# Altium footprint library MCU_Test.PcbLib: 16 footprints
Each footprint in its own frame and in the unit in brackets; x right, y up, seen from the top. Pads: shape width x height; smd on the part's side, far side on the other; paste and mask are expansions set on the pad; w line width, h text height; cw(c..) or ccw(c..) is an arc to the next point about the centre after c.
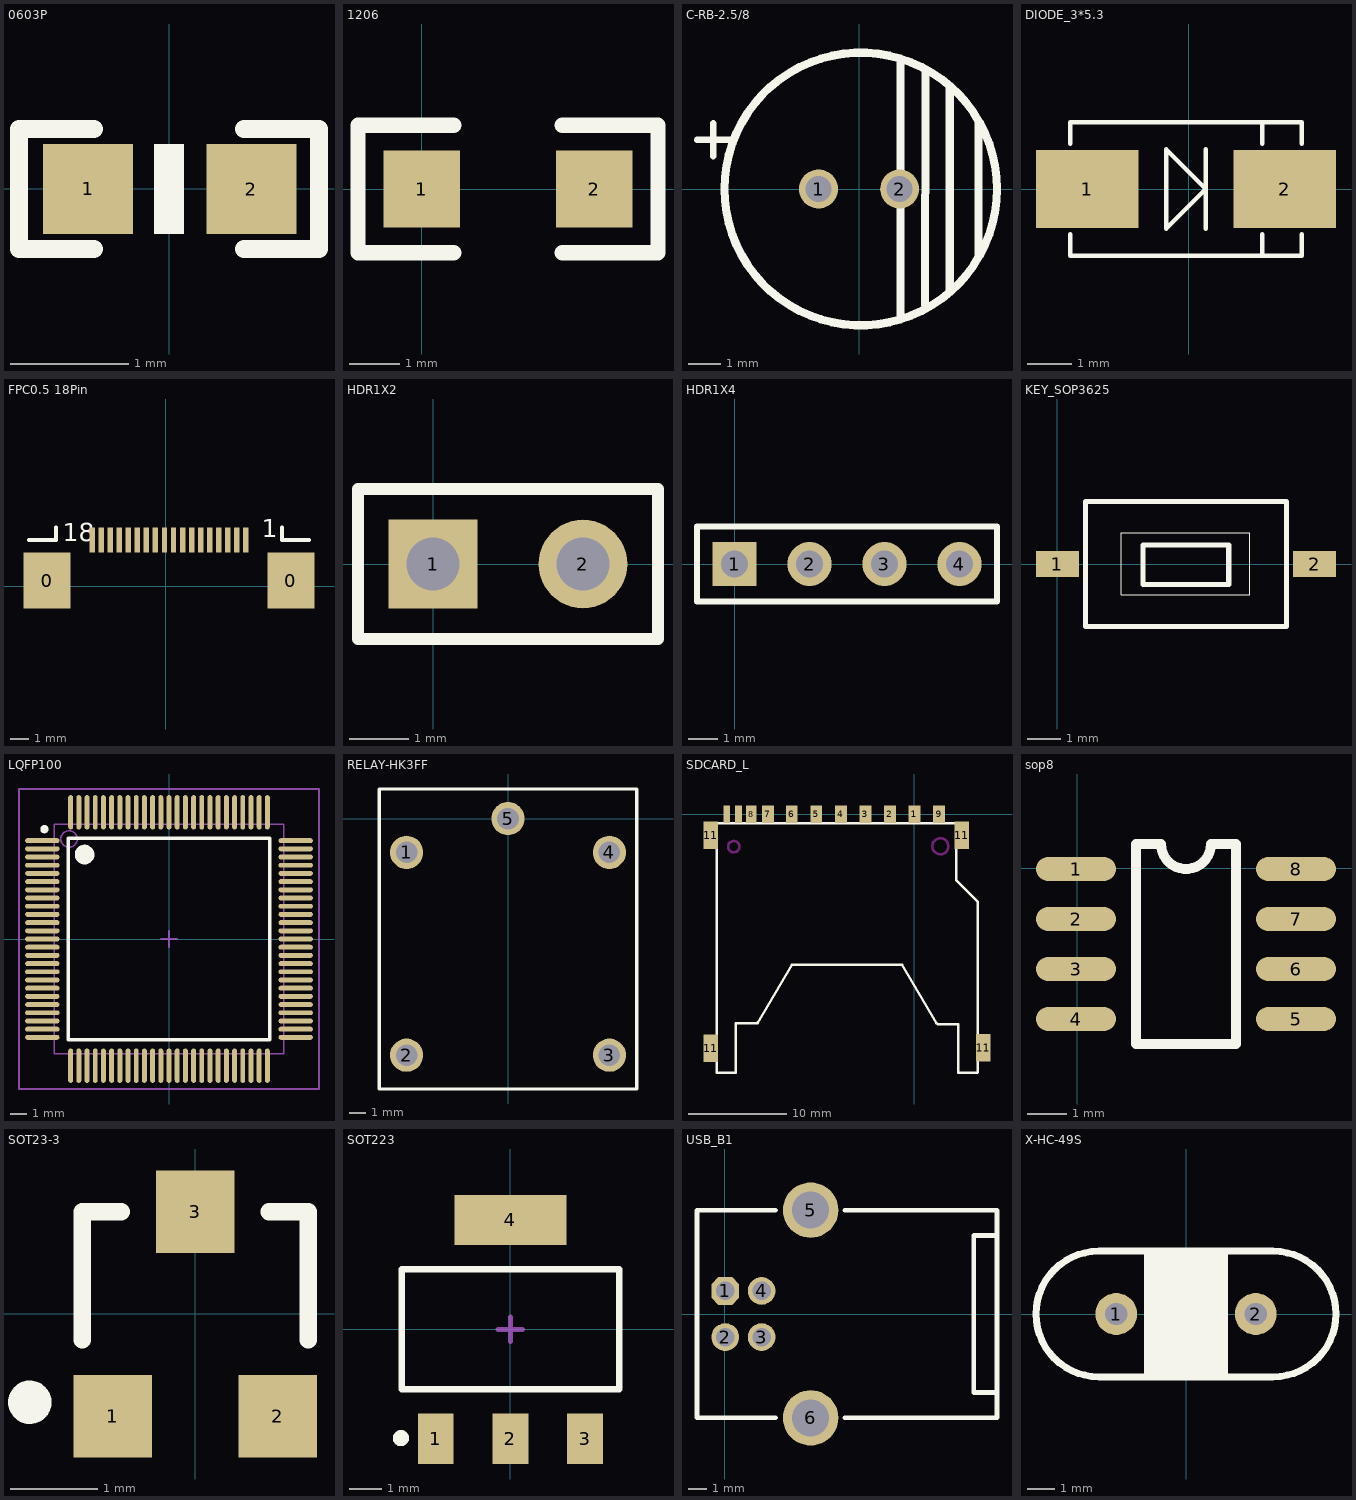
[diagram p0: the footprints below, top view; thin cyan lines are the x and y axes]

## 0603P [mil]
pads (2):
  rect 30x30 smd: 1(-27,0) 2(27.5,-0.06)
Top Overlay:
  region: 5,-15.06 5,14.94 -5,14.94 -5,-15.06
  lines w6: -25,-20.06 -50,-20.06 -50,19.94 -25,19.94 ; 25,-20.06 50,-20.06 50,19.94 25,19.94

## 1206 [mil]
pads (2):
  rect 60x60 smd: 1(0,0) 2(135,0)
Top Overlay:
  lines w12: 25,-50 -50,-50 -50,50 25,50 ; 110,-50 185,-50 185,50 110,50

## C-RB-2.5/8 [mm] "插件电解电容"
pads (2):
  round 1.2 hole 0.8: 1(-1.25,0) 2(1.25,0)
Top Overlay:
  circle w0.254: c0.05,0 r4.2
  lines w0.2: -4.995,1.524 -3.979,1.524 ; -4.487,1.016 -4.487,2.032
  lines w0.25: 1.275,2.15 1.275,3.618 1.279,3.622 1.279,3.928 ; 2.032,-3.556 2.041,3.241 2.041,3.674 ; 2.794,-3.175 2.794,2.032 2.794,3.175 ; 3.683,-2.032 3.683,2.032
  lines w0.254: 1.275,-3.937 1.275,2.15

## DIODE_3*5.3 [mm]
pads (2):
  rect 2.3x1.75 smd: 1(-2.286,0) 2(2.159,0)
Top Overlay:
  lines w0.1: -2.667,-1.016 -2.667,-1.5 2.54,-1.5 2.54,-1.016 ; -2.667,1.016 -2.667,1.5 2.54,1.5 2.54,1.016 ; 0.381,-0.889 0.381,0.889 ; 1.651,-1.5 1.651,-1.016 ; 1.651,1.016 1.651,1.5 ; -0.508,-0.889 -0.508,0.889 0.381,0 -0.508,-0.889

## FPC0.5 18Pin [mm]
pads (20):
  rect 2.6x3.1 smd: 0(-6.58,0.309) 0(6.92,0.309)
  rect 0.3x1.4 smd: 1(4.42,2.559) 2(3.92,2.559) 3(3.42,2.559) 4(2.92,2.559) 5(2.42,2.559) 6(1.92,2.559) 7(1.42,2.559) 8(0.92,2.559) 9(0.42,2.559) 10(-0.08,2.559) 11(-0.58,2.559) 12(-1.08,2.559) 13(-1.58,2.559) 14(-2.08,2.559) 15(-2.58,2.559) 16(-3.08,2.559) 17(-3.58,2.559) 18(-4.08,2.559)
Top Overlay:
  lines w0.203: -7.58,2.559 -6.08,2.559 -6.08,3.259 ; 6.42,3.259 6.42,2.559 7.92,2.559
  text "18" at -5.7,2.5 h1
  text "1" at 5.3,2.7 h1

## HDR1X2 [mm] "Connector; Header; 2 Position"
pads (2):
  rect 1.5x1.5 hole 0.9: 1(0,0)
  round 1.5 hole 0.9: 2(2.54,0)
Top Overlay:
  lines w0.2: -1.27,-1.27 3.81,-1.27 3.81,1.27 -1.27,1.27 -1.27,-1.27

## HDR1X4 [mm] "Connector; Header; 4 Position"
pads (4):
  rect 1.5x1.5 hole 0.9: 1(0,0)
  round 1.5 hole 0.9: 2(2.54,0) 3(5.08,0) 4(7.62,0)
Top Overlay:
  lines w0.2: -1.27,-1.27 8.89,-1.27 8.89,1.27 -1.27,1.27 -1.27,-1.27

## KEY_SOP3625 [mm]
pads (2):
  rect 1.3x0.8 smd: 1(0,0) 2(7.8,0)
Top Overlay:
  lines w0.025: 1.941,-0.938 5.827,-0.938 5.827,0.942 1.941,0.942 1.941,-0.938
  lines w0.152: 2.597,-0.623 2.597,0.577 ; 2.597,-0.623 5.197,-0.623 ; 2.597,-0.623 2.597,0.577 ; 2.597,-0.623 5.197,-0.623 ; 2.597,0.577 5.197,0.577 ; 2.597,0.577 5.197,0.577 ; 5.197,-0.623 5.197,0.577 ; 5.197,-0.623 5.197,0.577 ; 0.85,-1.9 6.95,-1.9 6.95,1.9 0.85,1.9 0.85,0 0.85,-1.9

## LQFP100 [mm]
pads (100):
  oval 2.1x0.3 smd: 1(-7.727,6) 2(-7.727,5.5) 3(-7.727,5) 4(-7.727,4.5) 5(-7.727,4) 6(-7.727,3.5) 7(-7.727,3) 8(-7.727,2.5) 9(-7.727,2) 10(-7.727,1.5) 11(-7.727,1) 12(-7.727,0.5) 13(-7.727,0) 14(-7.727,-0.5) 15(-7.727,-1) 16(-7.727,-1.5) 17(-7.727,-2) 18(-7.727,-2.5) 19(-7.727,-3) 20(-7.727,-3.5) 21(-7.727,-4) 22(-7.727,-4.5) 23(-7.727,-5) 24(-7.727,-5.5) 25(-7.727,-6) 51(7.727,-6) 52(7.727,-5.5) 53(7.727,-5) 54(7.727,-4.5) 55(7.727,-4) 56(7.727,-3.5) 57(7.727,-3) 58(7.727,-2.5) 59(7.727,-2) 60(7.727,-1.5) 61(7.727,-1) 62(7.727,-0.5) 63(7.727,0) 64(7.727,0.5) 65(7.727,1) 66(7.727,1.5) 67(7.727,2) 68(7.727,2.5) 69(7.727,3) 70(7.727,3.5) 71(7.727,4) 72(7.727,4.5) 73(7.727,5) 74(7.727,5.5) 75(7.727,6)
  oval 0.3x2.1 smd: 26(-6,-7.727) 27(-5.5,-7.727) 28(-5,-7.727) 29(-4.5,-7.727) 30(-4,-7.727) 31(-3.5,-7.727) 32(-3,-7.727) 33(-2.5,-7.727) 34(-2,-7.727) 35(-1.5,-7.727) 36(-1,-7.727) 37(-0.5,-7.727) 38(0,-7.727) 39(0.5,-7.727) 40(1,-7.727) 41(1.5,-7.727) 42(2,-7.727) 43(2.5,-7.727) 44(3,-7.727) 45(3.5,-7.727) 46(4,-7.727) 47(4.5,-7.727) 48(5,-7.727) 49(5.5,-7.727) 50(6,-7.727) 76(6,7.727) 77(5.5,7.727) 78(5,7.727) 79(4.5,7.727) 80(4,7.727) 81(3.5,7.727) 82(3,7.727) 83(2.5,7.727) 84(2,7.727) 85(1.5,7.727) 86(1,7.727) 87(0.5,7.727) 88(0,7.727) 89(-0.5,7.727) 90(-1,7.727) 91(-1.5,7.727) 92(-2,7.727) 93(-2.5,7.727) 94(-3,7.727) 95(-3.5,7.727) 96(-4,7.727) 97(-4.5,7.727) 98(-5,7.727) 99(-5.5,7.727) 100(-6,7.727)
Top Overlay:
  circle w0.6: c-5.15,5.15 r0.3
  circle w0.25: c-7.6,6.7 r0.125
  lines w0.2: -6.15,-6.15 6.15,-6.15 6.15,6.15 -6.15,6.15 -6.15,-6.15
Mechanical 13:
  circle w0.1: c-6.1,6.1 r0.5
  lines w0.1: -7,-7 7,-7 7,7 -7,7 -7,-7
Mechanical 15:
  lines w0.1: -0.5,0 0.5,0 ; 0,-0.5 0,0.5 ; -9.15,-9.15 9.15,-9.15 9.15,9.15 -9.15,9.15 -9.15,-9.15
3D body: height 1.6, standoff 0, extent -7.999,-8 8.001,8

## RELAY-HK3FF [mm] "继电器"
height 11.8
pads (5):
  round 2 hole 1.3: 1(-6.096,-2.032) 2(-6.096,-14.224) 3(6.096,-14.224) 4(6.096,-2.032) 5(0,0)
Top Overlay:
  lines w0.2: -7.747,-16.256 7.747,-16.256 7.747,1.778 -7.747,1.778 -7.747,-16.256
3D body: height 12, standoff 0, extent -7.747,-16.256 7.747,1.778

## SDCARD_L [mm]
pads (15):
  rect 1.2x1.8 smd: 1(0,0) 2(-2.489,0) 3(-4.983,-0.009) 4(-7.483,-0.009) 5(-9.983,-0.009) 6(-12.483,-0.009) 7(-14.908,-0.009) 9(2.517,-0.009)
  rect 1.1x1.8 smd: 8(-16.612,0)
  rect 0.7x1.8 smd: 10(-17.908,-0.009) 12(-19.101,0)
  rect 1.5x2.8 smd: 11(-20.726,-23.834) 11(-20.726,-2.143) 11(4.826,-2.143) 11(7.01,-23.784)
Top Overlay:
  lines w0.254: -18.158,-21.3 -18.158,-26.3 -20.131,-26.3 -20.131,-0.914 -20.117,-0.9 4.242,-0.9 4.242,-6.71 6.431,-8.899 6.442,-8.899 6.442,-26.273 6.415,-26.3 4.442,-26.3 4.442,-21.402 2.4,-21.402 2.242,-21.244 ; -18.107,-21.294 -16.065,-21.294 -15.907,-21.136 ; -15.958,-21.294 -12.446,-15.3 ; -12.458,-15.3 -1.258,-15.3 2.242,-21.294
Keep-Out Layer:
  circle w0.254: c-18.39,-3.3 r0.58
  circle w0.254: c2.642,-3.26 r0.82

## sop8 [mil]
pads (8):
  oval 80x24 smd: 1(-1,-1) 2(-1,-51) 3(-1,-101) 4(-1,-151) 5(219,-151) 6(219,-101) 7(219,-51) 8(219,-1)
Top Overlay:
  lines w10: 59,-176 59,24 84,24 ccw(c109,24) 134,24 159,24 159,-176 59,-176
3D body: height 62.99, standoff 0, extent -8.7,-173.62 229.17,24.02

## SOT23-3 [mm]
height 1.1
pads (3):
  rect 0.9x0.95 smd: 1(-0.95,-1.175) 2(0.95,-1.175) 3(0,1.175)
Top Overlay:
  circle w0.25: c-1.903,-1.016 r0.125
  lines w0.2: -1.3,-0.3 -1.3,1.175 -0.85,1.175 ; 0.85,1.175 1.3,1.175 1.3,-0.3
3D body: height 1.2, standoff 0, extent -1.45,-1.4 1.45,1.4

## SOT223 [mm]
height 1.8
pads (4):
  rect 1.1x1.55 smd: 1(-2.3,-3.375) 2(0,-3.375) 3(2.3,-3.375)
  rect 3.45x1.55 smd: 4(0,3.375)
Top Overlay:
  circle w0.25: c-3.376,-3.353 r0.125
  lines w0.2: -3.35,-1.85 -3.35,1.85 3.35,1.85 3.35,-1.85 -3.35,-1.85
Mechanical 15:
  lines w0.15: -0.381,0 0.381,0 ; 0,-0.381 0,0.381
3D body: height 1.7, standoff 0, extent -3.25,-3.48 3.25,3.48

## USB_B1 [mil] "USB方孔"
height 314.96
pads (6):
  oct 60x60 hole 40: 1(1.26,50)
  round 60 hole 40: 2(1.26,-50) 3(80,-50) 4(80,50)
  round 120 hole 80: 5(186.3,225) 6(186.3,-225)
Top Overlay:
  lines w10: 110,-225 -60,-225 -60,225 110,225 ; 260,-225 590,-225 590,225 260,225 ; 590,-170 540,-170 540,170 590,170

## X-HC-49S [mil] "插件晶振"
height 157.48
pads (2):
  round 60 hole 32: 1(-100,0) 2(100,0)
Top Overlay:
  rectangle: -60,-90 60,90
  lines w10: -125,-90 cw(c-125,0) -125,90 125,90 cw(c125,0) 125,-90 -125,-90